# Altium schematic symbol library CMT-0904-83T.SchLib: 1 symbol
Pins are listed as number, name and electrical type; pins without a type are passive.

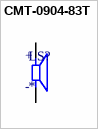
[diagram p0: symbol CMT-0904-83T]

## CMT-0904-83T
designator LS?
MP: CMT-0904-83T; Price: None; Value: *; Package: None; Availability: Unavailable
footprint XDCR_CMT-0904-83T
pins: N, P
text: +; -